# Altium schematic symbol library DG332J-5.0.SchLib: 1 symbol
Pins are listed as number, name and electrical type; pins without a type are passive.

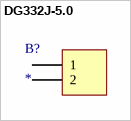
[diagram p0: symbol DG332J-5.0]

## DG332J-5.0
designator B?
Macho borna; Datasheet: https://www.tme.eu/Document/6f59a01d46ce6185fbfb76b3dbdbc475/dg332j-5.0.pdf; Link: https://www.tme.eu/es/details/dg332j5.0-24p13/bloque-de-bornas-extraibles/degson-electronics/dg332j-5-0-24p-13-00a-h/
footprint DG332J-5.0 (macho borna)
pins: 1, 2